# Altium schematic symbol library ST2378ETTR.SchLib: 1 symbol
Pins are listed as number, name and electrical type; pins without a type are passive.

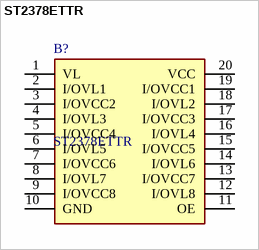
[diagram p0: symbol ST2378ETTR]

## ST2378ETTR
designator B?
STMicroelectronics ST2378ETTR, Logic Level Translator, Open Drain, Totem Pole, 1.71  5.5 V, 20-Pin TSSOP; Geometry.Height: 1.2mm; Mouser Part Number: 511-ST2378ET; Mouser Price/Stock: https://www.mouser.co.uk/ProductDetail/STMicroelectronics/ST2378ETTR?qs=DUDHuK3gDFSwMxNsCLUurA%3D%3D; Manufacturer_Name: STMicroelectronics; Manufacturer_Part_Number: ST2378ETTR; Datasheet Link: https://www.st.com/resource/en/datasheet/st2378e.pdf
footprint SOP65P640X120-20N
pins: 1 VL, 2 I/OVL1, 3 I/OVCC2, 4 I/OVL3, 5 I/OVCC4, 6 I/OVL5, 7 I/OVCC6, 8 I/OVL7, 9 I/OVCC8, 10 GND, 11 OE, 12 I/OVL8, 13 I/OVCC7, 14 I/OVL6, 15 I/OVCC5, 16 I/OVL4, 17 I/OVCC3, 18 I/OVL2, 19 I/OVCC1, 20 VCC